# Altium footprint library DIOC - DIOdeChip.PcbLib: 41 footprints (part 2 of 3)
Each footprint in its own frame and in the unit in brackets; x right, y up, seen from the top. Pads: shape width x height; smd on the part's side, far side on the other; paste and mask are expansions set on the pad; w line width, h text height; cw(c..) or ccw(c..) is an arc to the next point about the centre after c.
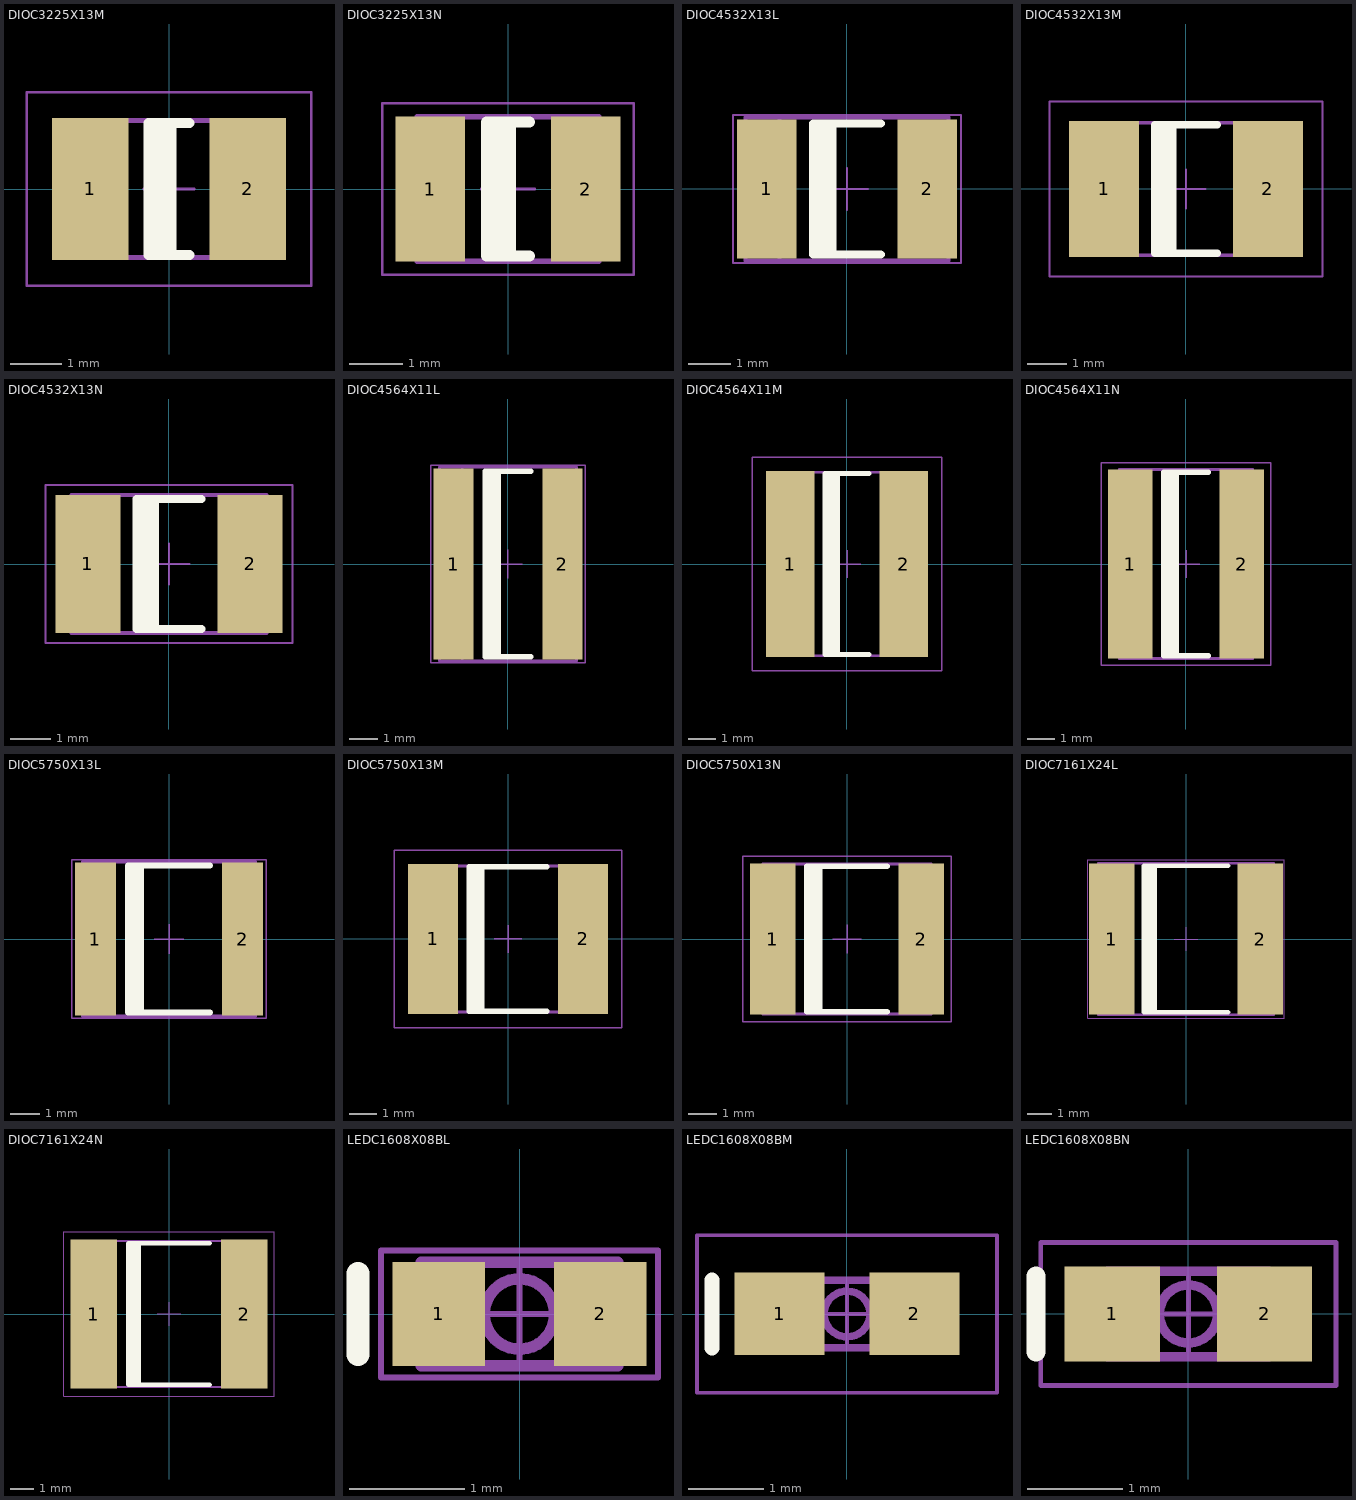
[diagram p1: the footprints below, top view; thin cyan lines are the x and y axes]

## DIOC3225X13M [mm] "Chip Diode, Body 3.2x2.5mm, IPC Low Density"
height 1.35
pads (2):
  rect 1.5x2.8 smd: 1(-1.55,0) 2(1.55,0)
Top Overlay:
  rectangle: -0.4,-1.3 0.15,1.3
  lines w0.2: 0.4,-1.3 -0.4,-1.3 -0.4,1.3 0.4,1.3
TopBody:
  lines w0.1: -1.175,-1.35 -1.175,1.35 ; -1.7,-1.35 -1.7,1.35 1.7,1.35 1.7,-1.35 -1.7,-1.35
  text ".Designator" at -0.635,-0.254 h0.5
TopCourtyard:
  lines w0.05: -0.5,0 0.5,0 ; 0,-0.5 0,0.5 ; -2.8,-1.9 -2.8,1.9 2.8,1.9 2.8,-1.9 -2.8,-1.9
3D body: height 1.35, standoff 0, extent -1.7,-1.35 1.7,1.35

## DIOC3225X13N [mm] "Chip Diode, Body 3.2x2.5mm, IPC Medium Density"
height 1.35
pads (2):
  rect 1.3x2.7 smd: 1(-1.45,0) 2(1.45,0)
Top Overlay:
  rectangle: -0.4,-1.25 0.15,1.25
  lines w0.2: 0.4,-1.25 -0.4,-1.25 -0.4,1.25 0.4,1.25
TopBody:
  lines w0.1: -1.175,-1.35 -1.175,1.35 ; -1.7,-1.35 -1.7,1.35 1.7,1.35 1.7,-1.35 -1.7,-1.35
  text ".Designator" at -0.635,-0.254 h0.5
TopCourtyard:
  lines w0.05: -0.5,0 0.5,0 ; 0,-0.5 0,0.5 ; -2.35,-1.6 -2.35,1.6 2.35,1.6 2.35,-1.6 -2.35,-1.6
3D body: height 1.35, standoff 0, extent -1.7,-1.35 1.7,1.35

## DIOC4532X13L [mm] "Chip Diode, Body 4.5x3.2mm, IPC High Density"
height 1.35
pads (2):
  rect 1.4x3.3 smd: 1(-1.9,0) 2(1.9,0)
Top Overlay:
  rectangle: -0.8,-1.55 -0.25,1.55
  lines w0.2: 0.8,-1.55 -0.8,-1.55 -0.8,1.55 0.8,1.55
TopBody:
  lines w0.1: -1.6,-1.7 -1.6,1.7 ; -2.4,-1.7 2.4,-1.7 2.4,1.7 -2.4,1.7 -2.4,-1.7
  text ".Designator" at -0.635,-0.254 h0.5
TopCourtyard:
  lines w0.05: -0.5,0 0.5,0 ; 0,-0.5 0,0.5 ; -2.7,-1.75 2.7,-1.75 2.7,1.75 -2.7,1.75 -2.7,-1.75
3D body: height 1.35, standoff 0, extent -2.4,-1.7 2.4,1.7

## DIOC4532X13M [mm] "Chip Diode, Body 4.5x3.2mm, IPC Low Density"
height 1.35
pads (2):
  rect 1.8x3.5 smd: 1(-2.1,0) 2(2.1,0)
Top Overlay:
  rectangle: -0.8,-1.65 -0.25,1.65
  lines w0.2: 0.8,-1.65 -0.8,-1.65 -0.8,1.65 0.8,1.65
TopBody:
  lines w0.1: -1.6,-1.7 -1.6,1.7 ; -2.4,-1.7 2.4,-1.7 2.4,1.7 -2.4,1.7 -2.4,-1.7
  text ".Designator" at -0.635,-0.254 h0.5
TopCourtyard:
  lines w0.05: -0.5,0 0.5,0 ; 0,-0.5 0,0.5 ; -3.5,-2.25 3.5,-2.25 3.5,2.25 -3.5,2.25 -3.5,-2.25
3D body: height 1.35, standoff 0, extent -2.4,-1.7 2.4,1.7

## DIOC4532X13N [mm] "Chip Diode, Body 4.5x3.2mm, IPC Medium Density"
height 1.35
pads (2):
  rect 1.6x3.4 smd: 1(-2,0) 2(2,0)
Top Overlay:
  rectangle: -0.8,-1.6 -0.25,1.6
  lines w0.2: 0.8,-1.6 -0.8,-1.6 -0.8,1.6 0.8,1.6
TopBody:
  lines w0.1: -1.6,-1.7 -1.6,1.7 ; -2.4,-1.7 2.4,-1.7 2.4,1.7 -2.4,1.7 -2.4,-1.7
  text ".Designator" at -0.635,-0.254 h0.5
TopCourtyard:
  lines w0.05: -0.5,0 0.5,0 ; 0,-0.5 0,0.5 ; -3.05,-1.95 3.05,-1.95 3.05,1.95 -3.05,1.95 -3.05,-1.95
3D body: height 1.35, standoff 0, extent -2.4,-1.7 2.4,1.7

## DIOC4564X11L [mm] "Chip Diode, Body 4.5x6.4mm, IPC High Density"
height 1.1
pads (2):
  rect 1.4x6.7 smd: 1(-1.9,0) 2(1.9,0)
Top Overlay:
  rectangle: -0.8,-3.25 -0.25,3.25
  lines w0.2: 0.8,-3.25 -0.8,-3.25 -0.8,3.25 0.8,3.25
TopBody:
  lines w0.1: -1.6,-3.4 -1.6,3.4 ; -2.4,-3.4 2.4,-3.4 2.4,3.4 -2.4,3.4 -2.4,-3.4
  text ".Designator" at -0.635,-0.254 h0.5
TopCourtyard:
  lines w0.05: -0.5,0 0.5,0 ; 0,-0.5 0,0.5 ; -2.7,-3.45 2.7,-3.45 2.7,3.45 -2.7,3.45 -2.7,-3.45
3D body: height 1.1, standoff 0, extent -2.4,-3.4 2.4,3.4

## DIOC4564X11M [mm] "Chip Diode, Body 4.5x6.4mm, IPC Low Density"
height 1.1
pads (2):
  rect 1.8x6.9 smd: 1(-2.1,0) 2(2.1,0)
Top Overlay:
  rectangle: -0.8,-3.35 -0.25,3.35
  lines w0.2: 0.8,-3.35 -0.8,-3.35 -0.8,3.35 0.8,3.35
TopBody:
  lines w0.1: -1.6,-3.4 -1.6,3.4 ; -2.4,-3.4 2.4,-3.4 2.4,3.4 -2.4,3.4 -2.4,-3.4
  text ".Designator" at -0.635,-0.254 h0.5
TopCourtyard:
  lines w0.05: -0.5,0 0.5,0 ; 0,-0.5 0,0.5 ; -3.5,-3.95 3.5,-3.95 3.5,3.95 -3.5,3.95 -3.5,-3.95
3D body: height 1.1, standoff 0, extent -2.4,-3.4 2.4,3.4

## DIOC4564X11N [mm] "Chip Diode, Body 4.5x6.4mm, IPC Medium Density"
height 1.1
pads (2):
  rect 1.6x6.8 smd: 1(-2,0) 2(2,0)
Top Overlay:
  rectangle: -0.8,-3.3 -0.25,3.3
  lines w0.2: 0.8,-3.3 -0.8,-3.3 -0.8,3.3 0.8,3.3
TopBody:
  lines w0.1: -1.6,-3.4 -1.6,3.4 ; -2.4,-3.4 2.4,-3.4 2.4,3.4 -2.4,3.4 -2.4,-3.4
  text ".Designator" at -0.635,-0.254 h0.5
TopCourtyard:
  lines w0.05: -0.5,0 0.5,0 ; 0,-0.5 0,0.5 ; -3.05,-3.65 3.05,-3.65 3.05,3.65 -3.05,3.65 -3.05,-3.65
3D body: height 1.1, standoff 0, extent -2.4,-3.4 2.4,3.4

## DIOC5750X13L [mm] "Chip Diode, Body 5.7x5.0mm, IPC High Density"
height 1.35
pads (2):
  rect 1.4x5.2 smd: 1(-2.5,0) 2(2.5,0)
Top Overlay:
  rectangle: -1.4,-2.5 -0.85,2.5
  lines w0.2: 1.4,-2.5 -1.4,-2.5 -1.4,2.5 1.4,2.5
TopBody:
  lines w0.1: -2.15,-2.625 -2.15,2.625 ; -2.95,-2.625 -2.95,2.625 2.95,2.625 2.95,-2.625 -2.95,-2.625
  text ".Designator" at -0.635,-0.254 h0.5
TopCourtyard:
  lines w0.05: -0.5,0 0.5,0 ; 0,-0.5 0,0.5 ; -3.3,-2.7 -3.3,2.7 3.3,2.7 3.3,-2.7 -3.3,-2.7
3D body: height 1.35, standoff 0, extent -2.95,-2.625 2.95,2.625

## DIOC5750X13M [mm] "Chip Diode, Body 5.7x5.0mm, IPC Low Density"
height 1.35
pads (2):
  rect 1.8x5.4 smd: 1(-2.7,0) 2(2.7,0)
Top Overlay:
  rectangle: -1.4,-2.6 -0.85,2.6
  lines w0.2: 1.4,-2.6 -1.4,-2.6 -1.4,2.6 1.4,2.6
TopBody:
  lines w0.1: -2.15,-2.625 -2.15,2.625 ; -2.95,-2.625 -2.95,2.625 2.95,2.625 2.95,-2.625 -2.95,-2.625
  text ".Designator" at -0.635,-0.254 h0.5
TopCourtyard:
  lines w0.05: -0.5,0 0.5,0 ; 0,-0.5 0,0.5 ; -4.1,-3.2 -4.1,3.2 4.1,3.2 4.1,-3.2 -4.1,-3.2
3D body: height 1.35, standoff 0, extent -2.95,-2.625 2.95,2.625

## DIOC5750X13N [mm] "Chip Diode, Body 5.7x5.0mm, IPC Medium Density"
height 1.35
pads (2):
  rect 1.6x5.3 smd: 1(-2.6,0) 2(2.6,0)
Top Overlay:
  rectangle: -1.4,-2.55 -0.85,2.55
  lines w0.2: 1.4,-2.55 -1.4,-2.55 -1.4,2.55 1.4,2.55
TopBody:
  lines w0.1: -2.15,-2.625 -2.15,2.625 ; -2.95,-2.625 2.95,-2.625 2.95,2.625 -2.95,2.625 -2.95,-2.625
  text ".Designator" at -0.635,-0.254 h0.5
TopCourtyard:
  lines w0.05: -0.5,0 0.5,0 ; 0,-0.5 0,0.5 ; -3.65,-2.9 3.65,-2.9 3.65,2.9 -3.65,2.9 -3.65,-2.9
3D body: height 1.35, standoff 0, extent -2.95,-2.625 2.95,2.625

## DIOC7161X24L [mm] "Chip Diode, Body 7.1x6.1mm, IPC High Density"
height 2.41
pads (2):
  rect 1.9x6.3 smd: 1(-3.1,0) 2(3.1,0)
Top Overlay:
  rectangle: -1.75,-3.05 -1.2,3.05
  lines w0.2: 1.75,-3.05 -1.75,-3.05 -1.75,3.05 1.75,3.05
TopBody:
  lines w0.1: -2.85,-3.15 -2.85,3.15 ; -3.65,-3.15 -3.65,3.15 3.65,3.15 3.65,-3.15 -3.65,-3.15
  text ".Designator" at -0.635,-0.254 h0.5
TopCourtyard:
  lines w0.05: -0.5,0 0.5,0 ; 0,-0.5 0,0.5 ; -4.1,-3.3 4.1,-3.3 4.1,3.3 -4.1,3.3 -4.1,-3.3
3D body: height 2.41, standoff 0, extent -3.65,-3.15 3.65,3.15

## DIOC7161X24N [mm] "Chip Diode, Body 7.1x6.1mm, IPC Medium Density"
height 2.41
pads (2):
  rect 2x6.45 smd: 1(-3.25,0) 2(3.25,0)
Top Overlay:
  rectangle: -1.75,-3.05 -1.2,3.05
  lines w0.2: 1.75,-3.05 -1.75,-3.05 -1.75,3.05 1.75,3.05
TopBody:
  lines w0.1: -2.85,-3.15 -2.85,3.15 ; -3.65,-3.15 -3.65,3.15 3.65,3.15 3.65,-3.15 -3.65,-3.15
  text ".Designator" at -0.635,-0.254 h0.5
TopCourtyard:
  lines w0.05: -0.5,0 0.5,0 ; 0,-0.5 0,0.5 ; -4.55,-3.55 4.55,-3.55 4.55,3.55 -4.55,3.55 -4.55,-3.55
3D body: height 2.41, standoff 0, extent -3.65,-3.15 3.65,3.15

## LEDC1608X08BL [mm] "Chip Blue LED, Body 1.6x0.8mm, IPC High Density"
height 0.85
pads (2):
  rect 0.8x0.9 smd: 1(-0.7,0) 2(0.7,0)
Top Overlay:
  lines w0.2: -1.4,-0.35 -1.4,0.35
TopBody:
  circle w0.1: c0,0 r0.305
  lines w0.1: -0.5,-0.45 -0.5,0.45 ; -0.85,-0.45 0.85,-0.45 0.85,0.45 -0.85,0.45 -0.85,-0.45
TopCourtyard:
  lines w0.05: -0.475,0 0.475,0 ; 0,-0.475 0,0.475 ; -1.2,-0.55 1.2,-0.55 1.2,0.55 -1.2,0.55 -1.2,-0.55
3D body: height 0.65, standoff 0.6, extent -0.311,-0.311 0.311,0.311
3D body: height 0.65, standoff 0, extent 0.5,-0.45 0.85,0.45
3D body: height 0.65, standoff 0, extent -0.85,-0.45 -0.5,0.45
3D body: height 0.65, standoff 0, extent -0.5,-0.45 0.5,0.45

## LEDC1608X08BM [mm] "Chip Blue LED, Body 1.6x0.8mm, IPC Low Density"
height 0.85
pads (2):
  rect 1.2x1.1 smd: 1(-0.9,0) 2(0.9,0)
Top Overlay:
  lines w0.2: -1.8,-0.45 -1.8,0.45
TopBody:
  circle w0.1: c0,0 r0.305
  lines w0.1: -0.5,-0.45 -0.5,0.45 ; -0.85,-0.45 -0.85,0.45 0.85,0.45 0.85,-0.45 -0.85,-0.45
TopCourtyard:
  lines w0.05: -0.475,0 0.475,0 ; 0,-0.475 0,0.475 ; -2,-1.05 -2,1.05 2,1.05 2,-1.05 -2,-1.05
3D body: height 0.65, standoff 0, extent -0.5,-0.45 0.5,0.45
3D body: height 0.65, standoff 0, extent -0.85,-0.45 -0.5,0.45
3D body: height 0.65, standoff 0, extent 0.5,-0.45 0.85,0.45
3D body: height 0.65, standoff 0.6, extent -0.311,-0.311 0.311,0.311

## LEDC1608X08BN [mm] "Chip Blue LED, Body 1.6x0.8mm, IPC Medium Density"
height 0.85
pads (2):
  rect 1x1 smd: 1(-0.8,0) 2(0.8,0)
Top Overlay:
  lines w0.2: -1.6,-0.4 -1.6,0.4
TopBody:
  circle w0.1: c0,0 r0.305
  lines w0.1: -0.5,-0.45 -0.5,0.45 ; -0.85,-0.45 -0.85,0.45 0.85,0.45 0.85,-0.45 -0.85,-0.45
TopCourtyard:
  lines w0.05: -0.475,0 0.475,0 ; 0,-0.475 0,0.475 ; -1.55,-0.75 1.55,-0.75 1.55,0.75 -1.55,0.75 -1.55,-0.75
3D body: height 0.65, standoff 0, extent -0.5,-0.45 0.5,0.45
3D body: height 0.65, standoff 0, extent -0.85,-0.45 -0.5,0.45
3D body: height 0.65, standoff 0, extent 0.5,-0.45 0.85,0.45
3D body: height 0.65, standoff 0.6, extent -0.311,-0.311 0.311,0.311